# EAGLE library part SCHALTER_ELMA_01_1X12 (library 1A-meinLib)
Rotary switch Type 01, ELMA, 1 x 12, PCB mounting
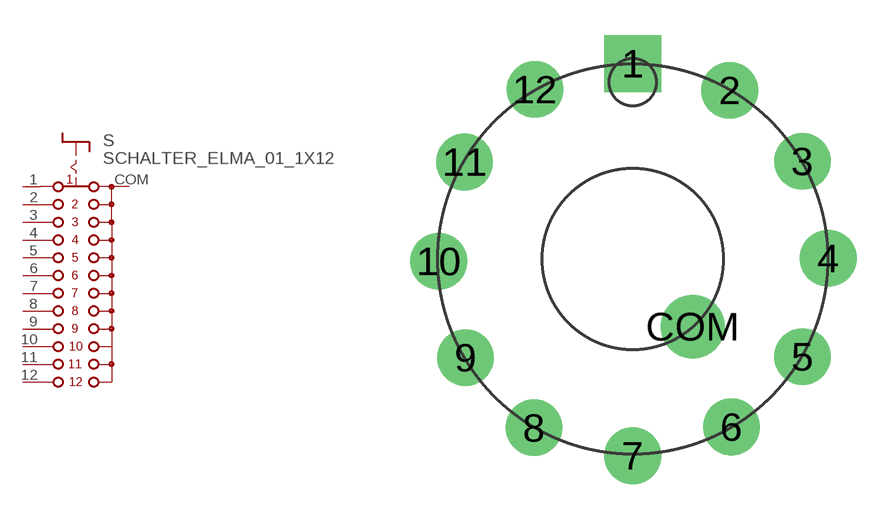
[diagram p151: symbol with the pads of SWITCH_ELMA_01-1X12; footprint SWITCH_ELMA_01-1X12]

Designator prefix S

## SCHALTER_ELMA_01_1X12  [SWITCH_ELMA_01-1X12]
1  1  pas
2  2  pas
3  3  pas
4  4  pas
5  5  pas
6  6  pas
7  7  pas
8  8  pas
9  9  pas
10  10  pas
11  11  pas
12  12  pas
COM  A  pas

## Footprint SWITCH_ELMA_01-1X12 (pad centres in mm)
drill 1.6 square: 1 0,8.278
drill 1.6 round: 2 4.112,7.151; 3 7.183,4.144; 4 8.278,0.032; 5 7.183,-4.139; 6 4.176,-7.115; 7 0,-8.342; 8 -4.176,-7.151; 9 -7.083,-4.176; 10 -8.214,-0.096; 11 -7.119,4.107; 12 -4.144,7.183
drill 1.8 round: COM 2.539,-2.868